# Altium footprint library TO545P1590X530X2460-3.PcbLib: 1 footprints
Each footprint in its own frame and in the unit in brackets; x right, y up, seen from the top. Pads: shape width x height; smd on the part's side, far side on the other; paste and mask are expansions set on the pad; w line width, h text height; cw(c..) or ccw(c..) is an arc to the next point about the centre after c.
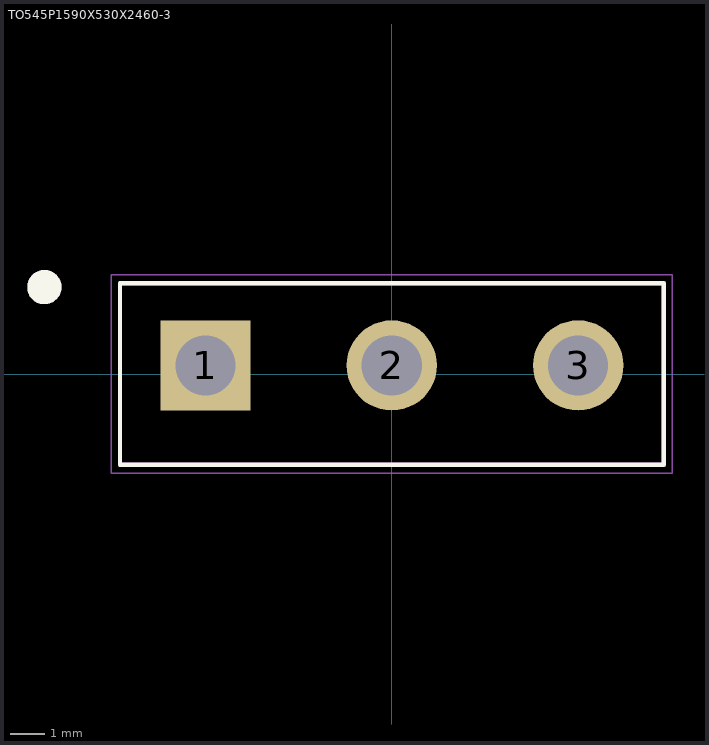
[diagram p0: the footprint, top view; thin cyan lines are the x and y axes]

## TO545P1590X530X2460-3 [mm]
pads (3):
  rect 2.64x2.64 / inner round 2.64 / far side rect 2.64x2.64 hole 1.76: 1(-5.45,0.25)
  round 2.64 hole 1.76: 2(0,0.25) 3(5.45,0.25)
Top Overlay:
  circle w0.5: c-10.16,2.54 r0.25
  lines w0.127: -7.95,-2.65 7.95,-2.65 7.95,2.65 -7.95,2.65 -7.95,-2.65
Mechanical 13:
  circle w0.5: c-10.16,2.54 r0.25
  lines w0.127: -7.95,-2.65 7.95,-2.65 7.95,2.65 -7.95,2.65 -7.95,-2.65
Mechanical 15:
  lines w0.05: -8.2,-2.9 -8.2,2.9 8.2,2.9 8.2,-2.9 -8.2,-2.9
3D body "step_temp.STEP": height 32.81, standoff -2.29, extent -7.8,-2.3 7.8,2.7